# Altium integrated library C0805C271F5GACTU.IntLib: 1 symbol
Pins are listed as number, name and electrical type; pins without a type are passive.

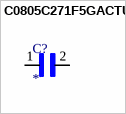
[diagram p0: symbol C0805C271F5GACTU]

## C0805C271F5GACTU
designator C?
CAP, MLCC, C0G, 270PF, 50V, 0805; MP: C0805C271F5GACTU; Package: None; Price: None; Value: *; Availability: Unavailable
footprint CAPC2012X88N
pins: 1, 2